# Altium footprint library SIMPLIA_LIB.PcbLib: 6 footprints
Each footprint in its own frame and in the unit in brackets; x right, y up, seen from the top. Pads: shape width x height; smd on the part's side, far side on the other; paste and mask are expansions set on the pad; w line width, h text height; cw(c..) or ccw(c..) is an arc to the next point about the centre after c.
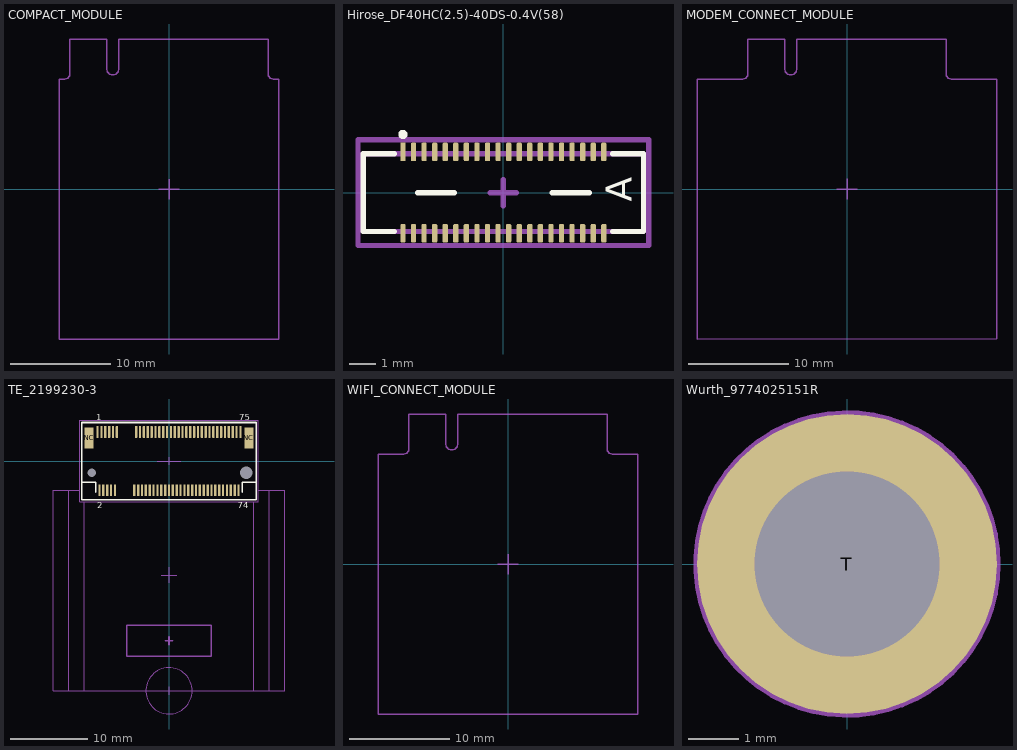
[diagram p0: the footprints below, top view; thin cyan lines are the x and y axes]

## COMPACT_MODULE [mm] "M.2 22x30mm COMPACT MODULE"
height 1.43
Mechanical 15:
  lines w0.15: -1,0 1,0 ; 0,-1 0,1 ; -11,-15 11,-15 11,11 10.425,11 cw(c10.425,11.5) 9.925,11.5 9.925,15 -5.025,15 -5.025,12 cw(c-5.625,12) -6.225,12 -6.225,15 -9.925,15 -9.925,11.5 cw(c-10.425,11.5) -10.425,11 -11,11 -11,-15
3D body "MOD_IMXRT_COMPACT_02_(STEP_[No Variations])_rv2021-03-04.step": height 4.87, standoff 1.41, extent -11,-15 11,15

## Hirose_DF40HC(2.5)-40DS-0.4V(58) [mm] "CONN RCPT 40POS 0.4MM SMD GOLD"
height 2.5
pads (40):
  rect 0.2x0.7 smd: 1(-3.8,1.54)
  rrect50% 0.2x0.7 smd: 2(-3.8,-1.54) 3(-3.4,1.54) 4(-3.4,-1.54) 5(-3,1.54) 6(-3,-1.54) 7(-2.6,1.54) 8(-2.6,-1.54) 9(-2.2,1.54) 10(-2.2,-1.54) 11(-1.8,1.54) 12(-1.8,-1.54) 13(-1.4,1.54) 14(-1.4,-1.54) 15(-1,1.54) 16(-1,-1.54) 17(-0.6,1.54) 18(-0.6,-1.54) 19(-0.2,1.54) 20(-0.2,-1.54) 21(0.2,1.54) 22(0.2,-1.54) 23(0.6,1.54) 24(0.6,-1.54) 25(1,1.54) 26(1,-1.54) 27(1.4,1.54) 28(1.4,-1.54) 29(1.8,1.54) 30(1.8,-1.54) 31(2.2,1.54) 32(2.2,-1.54) 33(2.6,1.54) 34(2.6,-1.54) 35(3,1.54) 36(3,-1.54) 37(3.4,1.54) 38(3.4,-1.54) 39(3.8,1.54) 40(3.8,-1.54)
Top Overlay:
  circle w0.2: c-3.8,2.2 r0.075
  lines w0.2: -4.125,-1.47 -5.3,-1.47 -5.3,1.47 -4.125,1.47 ; -3.25,0 -1.85,0 ; 1.85,0 3.25,0 ; 4.125,-1.47 5.3,-1.47 5.3,1.47 4.125,1.47
  text "A" at 4.85,-0.35 h1
Mechanical 13:
  lines w0.2: -5.3,-1.47 -5.3,1.47 5.3,1.47 5.3,-1.47 -5.3,-1.47
Mechanical 15:
  lines w0.2: -0.5,0 0.5,0 ; 0,-0.5 0,0.5 ; -5.5,-2 -5.5,2 5.5,2 5.5,-2 -5.5,-2
3D body "DF40HC(2.5)-40DS.stp": height 2.4, standoff 0, extent -5.291,-1.687 5.309,1.693

## MODEM_CONNECT_MODULE [mm] "M.2 30x30mm MODEM MODULE"
height 1.43
Mechanical 15:
  lines w0.15: -1,0 1,0 ; 0,-1 0,1 ; -15,-15 15,-15 15,11 13,11 11,11 10.425,11 cw(c10.425,11.5) 9.925,11.5 9.925,15 -5.025,15 -5.025,12 cw(c-5.625,12) -6.225,12 -6.225,15 -9.925,15 -9.925,11.5 cw(c-10.425,11.5) -10.425,11 -11,11 -15,11 -15,-15
3D body "MOD_IMXRT_MODEM_00_(STEP_[No Variations])_rv2020-11-05.step": height 5.05, standoff 1.34, extent -15,-15 15,15

## TE_2199230-3 [mm] "M.2 .5PITCH 4.2H KEY B"
height 3
pads (71):
  rrect50% 0.3x1.55 smd: 1(-9.25,3.775) 2(-9,-3.775) 3(-8.75,3.775) 4(-8.5,-3.775) 5(-8.25,3.775) 6(-8,-3.775) 7(-7.75,3.775) 8(-7.5,-3.775) 9(-7.25,3.775) 10(-7,-3.775) 11(-6.75,3.775) 20(-4.5,-3.775) 21(-4.25,3.775) 22(-4,-3.775) 23(-3.75,3.775) 24(-3.5,-3.775) 25(-3.25,3.775) 26(-3,-3.775) 27(-2.75,3.775) 28(-2.5,-3.775) 29(-2.25,3.775) 30(-2,-3.775) 31(-1.75,3.775) 32(-1.5,-3.775) 33(-1.25,3.775) 34(-1,-3.775) 35(-0.75,3.775) 36(-0.5,-3.775) 37(-0.25,3.775) 38(0,-3.775) 39(0.25,3.775) 40(0.5,-3.775) 41(0.75,3.775) 42(1,-3.775) 43(1.25,3.775) 44(1.5,-3.775) 45(1.75,3.775) 46(2,-3.775) 47(2.25,3.775) 48(2.5,-3.775) 49(2.75,3.775) 50(3,-3.775) 51(3.25,3.775) 52(3.5,-3.775) 53(3.75,3.775) 54(4,-3.775) 55(4.25,3.775) 56(4.5,-3.775) 57(4.75,3.775) 58(5,-3.775) 59(5.25,3.775) 60(5.5,-3.775) 61(5.75,3.775) 62(6,-3.775) 63(6.25,3.775) 64(6.5,-3.775) 65(6.75,3.775) 66(7,-3.775) 67(7.25,3.775) 68(7.5,-3.775) 69(7.75,3.775) 70(8,-3.775) 71(8.25,3.775) 72(8.5,-3.775) 73(8.75,3.775) 74(9,-3.775) 75(9.25,3.775)
  rect 1.2x2.75 smd: NC(-10.35,3) NC(10.35,3)
  rect 0x0 hole 1.1 unplated: NC(-10,-1.5)
  rect 0x0 hole 1.6 unplated: NC(10,-1.5)
Top Overlay:
  lines w0.2: -11.3,1.4 -11.3,-2.75 -9.5,-2.75 -9.5,-4 ; 9.5,-4 9.5,-2.75 11.3,-2.75 11.3,1.4 ; -11.3,-5 -11.3,5 11.3,5 11.3,-5 -11.3,-5
  text "2" at -9.3,-6.1 h0.8
  text "74" at 8.9,-6.1 h0.8
  text "75" at 9.1,5.3 h0.8
  text "1" at -9.4,5.3 h0.8
Mechanical 4:
  circle w0.15: c0,-29.75 r3
  lines w0.15: -13,-29.75 -13,-3.75 ; -11.6,-3.75 -15,-3.75 -15,-29.75 15,-29.75 15,-3.75 11.6,-3.75 ; -11,-29.75 -11,-5.275 ; -1,-14.75 1,-14.75 ; -0.5,-29.75 0.5,-29.75 ; 0,-30.25 0,-29.25 ; 0,-15.75 0,-13.75 ; 11,-29.75 11,-5.275 ; 13,-29.75 13,-3.75
  lines w0.2: -0.5,-23.25 0.5,-23.25 ; 0,-23.75 0,-22.75 ; -5.5,-25.25 -5.5,-21.25 5.5,-21.25 5.5,-25.25 -5.5,-25.25
  text "WIFI MODULE AREA" at -11.5,-27.9 h1
  text "COMPACT MODULE AREA" at -9.4,-27.8 h1
  text "MODEM MODULE AREA" at -13.5,-27.9 h1
  text "AREA" at -7.5,-13.8 h1
  text "DO NOT PLACE ANY" at -7.5,-8.7 h1
  text "THAN 1MM IN THIS" at -7.5,-12.1 h1
  text "COMPONENT HIGHER" at -7.5,-10.4 h1
Mechanical 15:
  lines w0.15: -1.5,0 1.5,0 ; 0,-0.5 0,0.5 ; -11.575,-5.275 11.575,-5.275 11.575,5.275 -11.575,5.275 -11.575,-5.275
3D body "c-2199230-3-b2-3d.stp": height 4.11, standoff -0.59, extent -10.95,-4.35 10.95,4.35

## WIFI_CONNECT_MODULE [mm] "M.2 26x30mm WIFI MODULE"
height 1.43
Mechanical 15:
  lines w0.15: -1,0 1,0 ; 0,-1 0,1 ; -13,-15 13,-15 13,11 11,11 10.425,11 cw(c10.425,11.5) 9.925,11.5 9.925,15 -5.025,15 -5.025,12 cw(c-5.625,12) -6.225,12 -6.225,15 -9.925,15 -9.925,11.5 cw(c-10.425,11.5) -10.425,11 -11,11 -13,11 -13,-15
3D body "MOD_IMXRT_WIFI_00_(STEP_[No Variations])_rv2020-10-30.step": height 5.15, standoff 1.34, extent -13,-15 13,15

## Wurth_9774025151R [mm] "ROUND STANDOFF M2.5 STEEL 2.5MM"
height 2.5
pads (1):
  round 6 / inner round 5.5 / far side round 5.3 hole 3.7: T(0,0)
Top Paste:
  region: -2.973,-0.4 -1.446,-0.4 -1.382,-0.582 -1.188,-0.916 -0.916,-1.188 -0.582,-1.382 -0.4,-1.446 -0.4,-2.973 -0.643,-2.941 -1.111,-2.797 -1.55,-2.58 -1.948,-2.295 -2.295,-1.948 -2.58,-1.55 -2.797,-1.111 -2.941,-0.643
  region: -0.4,2.973 -0.4,1.446 -0.582,1.382 -0.916,1.188 -1.188,0.916 -1.382,0.582 -1.446,0.4 -2.973,0.4 -2.941,0.643 -2.797,1.111 -2.58,1.55 -2.295,1.948 -1.948,2.295 -1.55,2.58 -1.111,2.797 -0.643,2.941
  region: 2.973,0.4 1.446,0.4 1.382,0.582 1.188,0.916 0.916,1.188 0.582,1.382 0.4,1.446 0.4,2.973 0.643,2.941 1.111,2.797 1.55,2.58 1.948,2.295 2.295,1.948 2.58,1.55 2.797,1.111 2.941,0.643
  region: 0.4,-2.973 0.4,-1.446 0.582,-1.382 0.916,-1.188 1.188,-0.916 1.382,-0.582 1.446,-0.4 2.973,-0.4 2.941,-0.643 2.797,-1.111 2.58,-1.55 2.295,-1.948 1.948,-2.295 1.55,-2.58 1.111,-2.797 0.643,-2.941
  lines w0.15: -2.973,-0.4 ccw(c0,0) -0.4,-2.973 -0.4,-1.446 cw(c0,0) -1.446,-0.4 -2.973,-0.4 ; -2.973,0.4 cw(c0,0) -0.4,2.973 -0.4,1.446 ccw(c0,0) -1.446,0.4 -2.973,0.4 ; 0.4,-2.973 ccw(c0,0) 2.973,-0.4 1.446,-0.4 cw(c0,0) 0.4,-1.446 0.4,-2.973 ; 0.4,1.446 cw(c0,0) 1.446,0.4 2.973,0.4 ccw(c0,0) 0.4,2.973 0.4,1.446
Mechanical 15:
  circle w0.15: c0,0 r3
  lines w0.15: -0.5,0 0.5,0 ; 0,-0.5 0,0.5
3D body "9774025151R (rev1).stp": height 2.5, standoff -1.4, extent -2.55,-2.547 2.55,2.547